# EAGLE library part LM2588 (library bodger)
National Semiconductor <http://www.national.com> 5.0A "Simple Switcher"(c) 5A, 100-200kHz adjustable, Vin 4-40V, optional sync
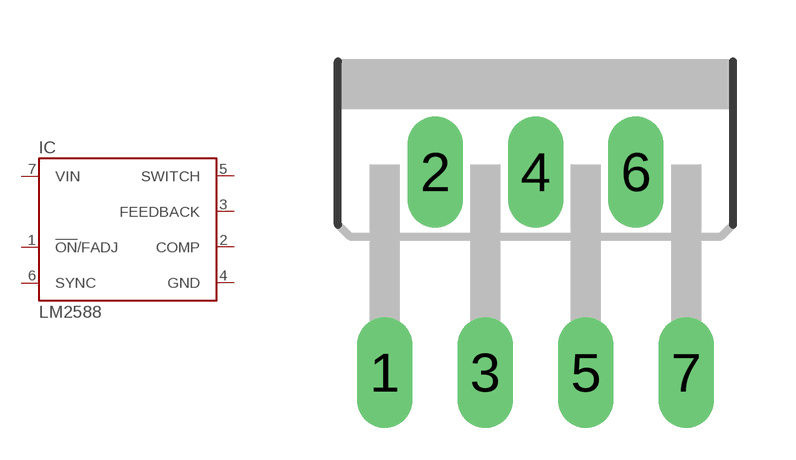
[diagram p2: symbol with the pads of TO220-7; footprint TO220-7]

Designator prefix IC

## LM2588T  [TO220-7]
1  !ON!/FADJ  pas
2  COMP  in
3  FEEDBACK  in
4  GND  pwr
5  SWITCH  out
6  SYNC  pas
7  VIN  pwr

## Footprint TO220-7 (pad centres in mm)
TO220-7
drill 0.9 long: 1 -3.81,-5.08; 2 -2.54,0; 3 -1.27,-5.08; 4 0,0; 5 1.27,-5.08; 6 2.54,0; 7 3.81,-5.08